# Altium footprint library RELAY20A.PcbLib: 1 footprints
Each footprint in its own frame and in the unit in brackets; x right, y up, seen from the top. Pads: shape width x height; smd on the part's side, far side on the other; paste and mask are expansions set on the pad; w line width, h text height; cw(c..) or ccw(c..) is an arc to the next point about the centre after c.
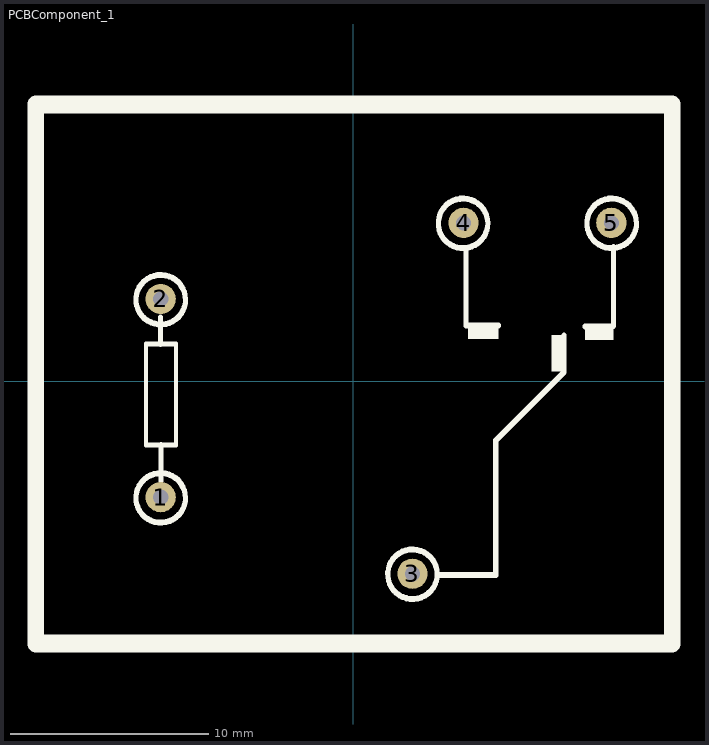
[diagram p0: the footprint, top view; thin cyan lines are the x and y axes]

## PCBComponent_1 [mil]
pads (5):
  round 60 hole 30: 1(-381.89,-229.92) 2(-381.89,163.78) 3(118.11,-381.89) 4(219.69,314.96) 5(512.99,314.96)
Top Overlay:
  rectangle: 460.63,82.68 517.72,108.27
  rectangle: 228.35,84.65 289.37,110.24
  rectangle: 393.7,19.68 419.29,90.55
  rectangle: 393.7,21.65 419.29,92.52
  rectangle: 228.35,86.61 289.37,112.2
  rectangle: 460.63,84.65 517.72,110.24
  lines w7.87: -411.18,-127.01 -411.18,72.99 -351.18,72.99 -351.18,-127.01 -381.18,-127.01 -411.18,-127.01 ; -411.18,-125.04 -381.18,-125.04 -351.18,-125.04 -351.18,74.96 -411.18,74.96 -411.18,-125.04
  lines w10: -381.89,72.99 -381.89,125.98 ; -381.89,74.96 -381.89,127.95 ; -381.18,-198.11 -381.18,-127.01 ; -381.18,-196.14 -381.18,-125.04 ; -333.06,-238.39 cw(c-381.89,-232.28) -332.68,-232.28 ; -333.06,-236.42 cw(c-381.89,-230.31) -332.68,-230.31 ; -333.06,155.31 cw(c-381.89,161.42) -332.68,161.42 ; -333.06,157.28 cw(c-381.89,163.39) -332.68,163.39 ; 166.94,-389.96 cw(c118.11,-383.86) 167.32,-383.86 283.46,-383.86 283.46,-116.14 419.29,19.68 419.29,92.52 ; 166.94,-387.99 cw(c118.11,-381.89) 167.32,-381.89 ; 167.32,-385.83 283.46,-385.83 283.46,-118.11 419.29,17.72 419.29,90.55 ; 224.41,263.78 224.41,110.24 289.37,110.24 ; 224.41,265.75 224.41,112.2 289.37,112.2 ; 267.34,306.89 cw(c218.5,312.99) 267.72,312.99 ; 267.34,308.86 cw(c218.5,314.96) 267.72,314.96 ; 460.63,108.27 515.75,108.27 517.72,110.24 517.72,265.75 ; 460.63,110.24 515.75,110.24 517.72,112.2 517.72,267.72 ; 562.61,306.89 cw(c513.78,312.99) 562.99,312.99 ; 562.61,308.86 cw(c513.78,314.96) 562.99,314.96
  lines w33.46: -629.92,-521.65 633.86,-521.65 633.86,549.21 220.47,549.21 -629.92,549.21 -629.92,-521.65 ; -629.92,-519.68 -629.92,551.18 220.47,551.18 633.86,551.18 633.86,-519.68 -629.92,-519.68